# Altium schematic symbol library WA-SMST.SchLib: 108 symbols (part 1 of 2)
Pins are listed as number, name and electrical type; pins without a type are passive.

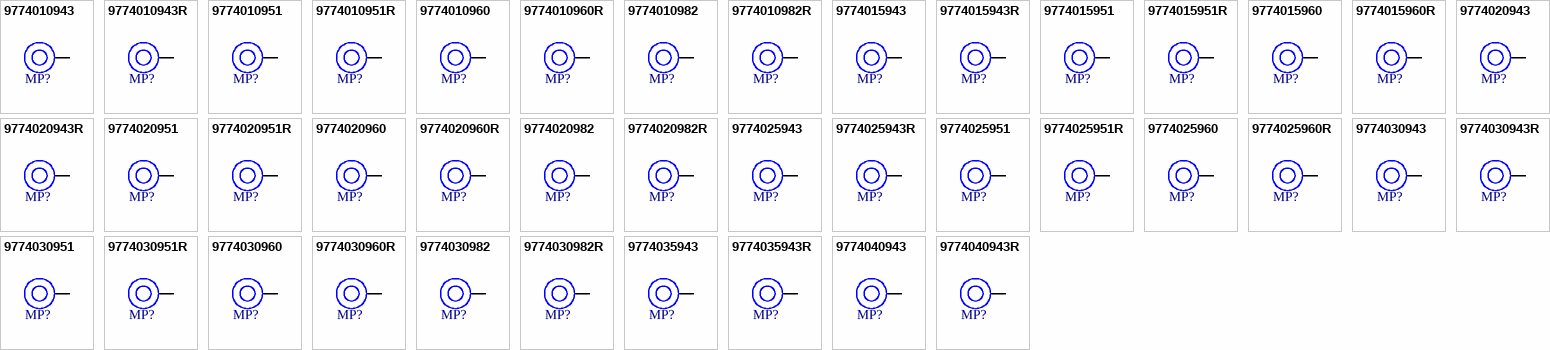
[diagram p0: symbols 9774010943 to 9774040943R]

## 9774010943
designator MP?, comment hole 2.25mm x 1mm  (value not drawn)
WA-SMST SMT Steel Spacer, OD 4.35mm, hole 2.25mm x 1mm; Manufacturer Part Number: 9774010943; Manufacturer: Wurth Elektronik; Surface: Tin; ComponentLink1Description: Website Link; ComponentLink1URL: https://www.we-online.com/redexpert/article/9774010943?ad; ComponentLink2Description: Datasheet Link; ComponentLink2URL: https://www.we-online.com/redexpert/spec/9774010943?ad; Category: SMT Spacers; Match Code: WA-SMST; Mount: Surface Mount; Operating Temperature Max: 150°C; Operating Temperature Min: -55°C; Packaging: Bulk; Height: 1mm; Inside Diameter: 2.25mm; Material: Steel; Outside Diameter: 4.35mm
footprint 9774010943
pins: 1

## 9774010943R
designator MP?, comment hole 2.25mm x 1mm  (value not drawn)
WA-SMST SMT Steel Spacer, OD 4.35mm, hole 2.25mm x 1mm; Manufacturer Part Number: 9774010943R; Manufacturer: Wurth Elektronik; Surface: Tin; ComponentLink1Description: Website Link; ComponentLink1URL: https://www.we-online.com/redexpert/article/9774010943R?ad; ComponentLink2Description: Datasheet Link; ComponentLink2URL: https://www.we-online.com/redexpert/spec/9774010943R?ad; Category: SMT Spacers; Match Code: WA-SMST; Mount: Surface Mount; Operating Temperature Max: 150°C; Operating Temperature Min: -55°C; Packaging: Tape and Reel; Height: 1mm; Inside Diameter: 2.25mm; Material: Steel; Outside Diameter: 4.35mm
footprint 9774010943
pins: 1

## 9774010951
designator MP?, comment hole 2.7mm x 1mm  (value not drawn)
WA-SMST SMT Steel Spacer, OD 5.1mm, hole 2.7mm x 1mm; Manufacturer Part Number: 9774010951; Manufacturer: Wurth Elektronik; Surface: Tin; ComponentLink1Description: Website Link; ComponentLink1URL: https://www.we-online.com/redexpert/article/9774010951?ad; ComponentLink2Description: Datasheet Link; ComponentLink2URL: https://www.we-online.com/redexpert/spec/9774010951?ad; Category: SMT Spacers; Match Code: WA-SMST; Mount: Surface Mount; Operating Temperature Max: 150°C; Operating Temperature Min: -55°C; Packaging: Bulk; Height: 1mm; Inside Diameter: 2.7mm; Material: Steel; Outside Diameter: 5.1mm
footprint 9774010951
pins: 1

## 9774010951R
designator MP?, comment hole 2.7mm x 1mm  (value not drawn)
WA-SMST SMT Steel Spacer, OD 5.1mm, hole 2.7mm x 1mm; Manufacturer Part Number: 9774010951R; Manufacturer: Wurth Elektronik; Surface: Tin; ComponentLink1Description: Website Link; ComponentLink1URL: https://www.we-online.com/redexpert/article/9774010951R?ad; ComponentLink2Description: Datasheet Link; ComponentLink2URL: https://www.we-online.com/redexpert/spec/9774010951R?ad; Category: SMT Spacers; Match Code: WA-SMST; Mount: Surface Mount; Operating Temperature Max: 150°C; Operating Temperature Min: -55°C; Packaging: Tape and Reel; Height: 1mm; Inside Diameter: 2.7mm; Material: Steel; Outside Diameter: 5.1mm
footprint 9774010951
pins: 1

## 9774010960
designator MP?, comment hole 3.3mm x 1mm  (value not drawn)
WA-SMST SMT Steel Spacer, OD 6mm, hole 3.3mm x 1mm; Manufacturer Part Number: 9774010960; Manufacturer: Wurth Elektronik; Surface: Tin; ComponentLink1Description: Website Link; ComponentLink1URL: https://www.we-online.com/redexpert/article/9774010960?ad; ComponentLink2Description: Datasheet Link; ComponentLink2URL: https://www.we-online.com/redexpert/spec/9774010960?ad; Category: SMT Spacers; Match Code: WA-SMST; Mount: Surface Mount; Operating Temperature Max: 150°C; Operating Temperature Min: -55°C; Packaging: Bulk; Height: 1mm; Inside Diameter: 3.3mm; Material: Steel; Outside Diameter: 6mm
footprint 9774010960
pins: 1

## 9774010960R
designator MP?, comment hole 3.3mm x 1mm  (value not drawn)
WA-SMST SMT Steel Spacer, OD 6mm, hole 3.3mm x 1mm; Manufacturer Part Number: 9774010960R; Manufacturer: Wurth Elektronik; Surface: Tin; ComponentLink1Description: Website Link; ComponentLink1URL: https://www.we-online.com/redexpert/article/9774010960R?ad; ComponentLink2Description: Datasheet Link; ComponentLink2URL: https://www.we-online.com/redexpert/spec/9774010960R?ad; Category: SMT Spacers; Match Code: WA-SMST; Mount: Surface Mount; Operating Temperature Max: 150°C; Operating Temperature Min: -55°C; Packaging: Tape and Reel; Height: 1mm; Inside Diameter: 3.3mm; Material: Steel; Outside Diameter: 6mm
footprint 9774010960
pins: 1

## 9774010982
designator MP?, comment hole 4.5mm x 1mm  (value not drawn)
WA-SMST SMT Steel Spacer, OD 8.2mm, hole 4.5mm x 1mm; Manufacturer Part Number: 9774010982; Manufacturer: Wurth Elektronik; Surface: Tin; ComponentLink1Description: Website Link; ComponentLink1URL: https://www.we-online.com/redexpert/article/9774010982?ad; ComponentLink2Description: Datasheet Link; ComponentLink2URL: https://www.we-online.com/redexpert/spec/9774010982?ad; Category: SMT Spacers; Match Code: WA-SMST; Mount: Surface Mount; Operating Temperature Max: 150°C; Operating Temperature Min: -55°C; Packaging: Bulk; Height: 1mm; Inside Diameter: 4.5mm; Material: Steel; Outside Diameter: 8.2mm
footprint 9774010982
pins: 1

## 9774010982R
designator MP?, comment hole 4.5mm x 1mm  (value not drawn)
WA-SMST SMT Steel Spacer, OD 8.2mm, hole 4.5mm x 1mm; Manufacturer Part Number: 9774010982R; Manufacturer: Wurth Elektronik; Surface: Tin; ComponentLink1Description: Website Link; ComponentLink1URL: https://www.we-online.com/redexpert/article/9774010982R?ad; ComponentLink2Description: Datasheet Link; ComponentLink2URL: https://www.we-online.com/redexpert/spec/9774010982R?ad; Category: SMT Spacers; Match Code: WA-SMST; Mount: Surface Mount; Operating Temperature Max: 150°C; Operating Temperature Min: -55°C; Packaging: Tape and Reel; Height: 1mm; Inside Diameter: 4.5mm; Material: Steel; Outside Diameter: 8.2mm
footprint 9774010982
pins: 1

## 9774015943
designator MP?, comment hole 2.25mm x 1.5mm  (value not drawn)
WA-SMST SMT Steel Spacer, OD 4.35mm, hole 2.25mm x 1.5mm; Manufacturer Part Number: 9774015943; Manufacturer: Wurth Elektronik; Surface: Tin; ComponentLink1Description: Website Link; ComponentLink1URL: https://www.we-online.com/redexpert/article/9774015943?ad; ComponentLink2Description: Datasheet Link; ComponentLink2URL: https://www.we-online.com/redexpert/spec/9774015943?ad; Category: SMT Spacers; Match Code: WA-SMST; Mount: Surface Mount; Operating Temperature Max: 150°C; Operating Temperature Min: -55°C; Packaging: Bulk; Height: 1.5mm; Inside Diameter: 2.25mm; Material: Steel; Outside Diameter: 4.35mm
footprint 9774015943
pins: 1

## 9774015943R
designator MP?, comment hole 2.25mm x 1.5mm  (value not drawn)
WA-SMST SMT Steel Spacer, OD 4.35mm, hole 2.25mm x 1.5mm; Manufacturer Part Number: 9774015943R; Manufacturer: Wurth Elektronik; Surface: Tin; ComponentLink1Description: Website Link; ComponentLink1URL: https://www.we-online.com/redexpert/article/9774015943R?ad; ComponentLink2Description: Datasheet Link; ComponentLink2URL: https://www.we-online.com/redexpert/spec/9774015943R?ad; Category: SMT Spacers; Match Code: WA-SMST; Mount: Surface Mount; Operating Temperature Max: 150°C; Operating Temperature Min: -55°C; Packaging: Tape and Reel; Height: 1.5mm; Inside Diameter: 2.25mm; Material: Steel; Outside Diameter: 4.35mm
footprint 9774015943
pins: 1

## 9774015951
designator MP?, comment hole 2.7mm x 1.5mm  (value not drawn)
WA-SMST SMT Steel Spacer, OD 5.1mm, hole 2.7mm x 1.5mm; Manufacturer Part Number: 9774015951; Manufacturer: Wurth Elektronik; Surface: Tin; ComponentLink1Description: Website Link; ComponentLink1URL: https://www.we-online.com/redexpert/article/9774015951?ad; ComponentLink2Description: Datasheet Link; ComponentLink2URL: https://www.we-online.com/redexpert/spec/9774015951?ad; Category: SMT Spacers; Match Code: WA-SMST; Mount: Surface Mount; Operating Temperature Max: 150°C; Operating Temperature Min: -55°C; Packaging: Bulk; Height: 1.5mm; Inside Diameter: 2.7mm; Material: Steel; Outside Diameter: 5.1mm
footprint 9774015951
pins: 1

## 9774015951R
designator MP?, comment hole 2.7mm x 1.5mm  (value not drawn)
WA-SMST SMT Steel Spacer, OD 5.1mm, hole 2.7mm x 1.5mm; Manufacturer Part Number: 9774015951R; Manufacturer: Wurth Elektronik; Surface: Tin; ComponentLink1Description: Website Link; ComponentLink1URL: https://www.we-online.com/redexpert/article/9774015951R?ad; ComponentLink2Description: Datasheet Link; ComponentLink2URL: https://www.we-online.com/redexpert/spec/9774015951R?ad; Category: SMT Spacers; Match Code: WA-SMST; Mount: Surface Mount; Operating Temperature Max: 150°C; Operating Temperature Min: -55°C; Packaging: Tape and Reel; Height: 1.5mm; Inside Diameter: 2.7mm; Material: Steel; Outside Diameter: 5.1mm
footprint 9774015951
pins: 1

## 9774015960
designator MP?, comment hole 3.3mm x 1.5mm  (value not drawn)
WA-SMST SMT Steel Spacer, OD 6mm, hole 3.3mm x 1.5mm; Manufacturer Part Number: 9774015960; Manufacturer: Wurth Elektronik; Surface: Tin; ComponentLink1Description: Website Link; ComponentLink1URL: https://www.we-online.com/redexpert/article/9774015960?ad; ComponentLink2Description: Datasheet Link; ComponentLink2URL: https://www.we-online.com/redexpert/spec/9774015960?ad; Category: SMT Spacers; Match Code: WA-SMST; Mount: Surface Mount; Operating Temperature Max: 150°C; Operating Temperature Min: -55°C; Packaging: Bulk; Height: 1.5mm; Inside Diameter: 3.3mm; Material: Steel; Outside Diameter: 6mm
footprint 9774015960
pins: 1

## 9774015960R
designator MP?, comment hole 3.3mm x 1.5mm  (value not drawn)
WA-SMST SMT Steel Spacer, OD 6mm, hole 3.3mm x 1.5mm; Manufacturer Part Number: 9774015960R; Manufacturer: Wurth Elektronik; Surface: Tin; ComponentLink1Description: Website Link; ComponentLink1URL: https://www.we-online.com/redexpert/article/9774015960R?ad; ComponentLink2Description: Datasheet Link; ComponentLink2URL: https://www.we-online.com/redexpert/spec/9774015960R?ad; Category: SMT Spacers; Match Code: WA-SMST; Mount: Surface Mount; Operating Temperature Max: 150°C; Operating Temperature Min: -55°C; Packaging: Tape and Reel; Height: 1.5mm; Inside Diameter: 3.3mm; Material: Steel; Outside Diameter: 6mm
footprint 9774015960
pins: 1

## 9774020943
designator MP?, comment hole 2.25mm x 2mm  (value not drawn)
WA-SMST SMT Steel Spacer, OD 4.35mm, hole 2.25mm x 2mm; Manufacturer Part Number: 9774020943; Manufacturer: Wurth Elektronik; Surface: Tin; ComponentLink1Description: Website Link; ComponentLink1URL: https://www.we-online.com/redexpert/article/9774020943?ad; ComponentLink2Description: Datasheet Link; ComponentLink2URL: https://www.we-online.com/redexpert/spec/9774020943?ad; Category: SMT Spacers; Match Code: WA-SMST; Mount: Surface Mount; Operating Temperature Max: 150°C; Operating Temperature Min: -55°C; Packaging: Bulk; Height: 2mm; Inside Diameter: 2.25mm; Material: Steel; Outside Diameter: 4.35mm
footprint 9774020943
pins: 1

## 9774020943R
designator MP?, comment hole 2.25mm x 2mm  (value not drawn)
WA-SMST SMT Steel Spacer, OD 4.35mm, hole 2.25mm x 2mm; Manufacturer Part Number: 9774020943R; Manufacturer: Wurth Elektronik; Surface: Tin; ComponentLink1Description: Website Link; ComponentLink1URL: https://www.we-online.com/redexpert/article/9774020943R?ad; ComponentLink2Description: Datasheet Link; ComponentLink2URL: https://www.we-online.com/redexpert/spec/9774020943R?ad; Category: SMT Spacers; Match Code: WA-SMST; Mount: Surface Mount; Operating Temperature Max: 150°C; Operating Temperature Min: -55°C; Packaging: Tape and Reel; Height: 2mm; Inside Diameter: 2.25mm; Material: Steel; Outside Diameter: 4.35mm
footprint 9774020943
pins: 1

## 9774020951
designator MP?, comment hole 2.7mm x 2mm  (value not drawn)
WA-SMST SMT Steel Spacer, OD 5.1mm, hole 2.7mm x 2mm; Manufacturer Part Number: 9774020951; Manufacturer: Wurth Elektronik; Surface: Tin; ComponentLink1Description: Website Link; ComponentLink1URL: https://www.we-online.com/redexpert/article/9774020951?ad; ComponentLink2Description: Datasheet Link; ComponentLink2URL: https://www.we-online.com/redexpert/spec/9774020951?ad; Category: SMT Spacers; Match Code: WA-SMST; Mount: Surface Mount; Operating Temperature Max: 150°C; Operating Temperature Min: -55°C; Packaging: Bulk; Height: 2mm; Inside Diameter: 2.7mm; Material: Steel; Outside Diameter: 5.1mm
footprint 9774020951
pins: 1

## 9774020951R
designator MP?, comment hole 2.7mm x 2mm  (value not drawn)
WA-SMST SMT Steel Spacer, OD 5.1mm, hole 2.7mm x 2mm; Manufacturer Part Number: 9774020951R; Manufacturer: Wurth Elektronik; Surface: Tin; ComponentLink1Description: Website Link; ComponentLink1URL: https://www.we-online.com/redexpert/article/9774020951R?ad; ComponentLink2Description: Datasheet Link; ComponentLink2URL: https://www.we-online.com/redexpert/spec/9774020951R?ad; Category: SMT Spacers; Match Code: WA-SMST; Mount: Surface Mount; Operating Temperature Max: 150°C; Operating Temperature Min: -55°C; Packaging: Tape and Reel; Height: 2mm; Inside Diameter: 2.7mm; Material: Steel; Outside Diameter: 5.1mm
footprint 9774020951
pins: 1

## 9774020960
designator MP?, comment hole 3.3mm x 2mm  (value not drawn)
WA-SMST SMT Steel Spacer, OD 6mm, hole 3.3mm x 2mm; Manufacturer Part Number: 9774020960; Manufacturer: Wurth Elektronik; Surface: Tin; ComponentLink1Description: Website Link; ComponentLink1URL: https://www.we-online.com/redexpert/article/9774020960?ad; ComponentLink2Description: Datasheet Link; ComponentLink2URL: https://www.we-online.com/redexpert/spec/9774020960?ad; Category: SMT Spacers; Match Code: WA-SMST; Mount: Surface Mount; Operating Temperature Max: 150°C; Operating Temperature Min: -55°C; Packaging: Bulk; Height: 2mm; Inside Diameter: 3.3mm; Material: Steel; Outside Diameter: 6mm
footprint 9774020960
pins: 1

## 9774020960R
designator MP?, comment hole 3.3mm x 2mm  (value not drawn)
WA-SMST SMT Steel Spacer, OD 6mm, hole 3.3mm x 2mm; Manufacturer Part Number: 9774020960R; Manufacturer: Wurth Elektronik; Surface: Tin; ComponentLink1Description: Website Link; ComponentLink1URL: https://www.we-online.com/redexpert/article/9774020960R?ad; ComponentLink2Description: Datasheet Link; ComponentLink2URL: https://www.we-online.com/redexpert/spec/9774020960R?ad; Category: SMT Spacers; Match Code: WA-SMST; Mount: Surface Mount; Operating Temperature Max: 150°C; Operating Temperature Min: -55°C; Packaging: Tape and Reel; Height: 2mm; Inside Diameter: 3.3mm; Material: Steel; Outside Diameter: 6mm
footprint 9774020960
pins: 1

## 9774020982
designator MP?, comment hole 4.5mm x 2mm  (value not drawn)
WA-SMST SMT Steel Spacer, OD 8.2mm, hole 4.5mm x 2mm; Manufacturer Part Number: 9774020982; Manufacturer: Wurth Elektronik; Surface: Tin; ComponentLink1Description: Website Link; ComponentLink1URL: https://www.we-online.com/redexpert/article/9774020982?ad; ComponentLink2Description: Datasheet Link; ComponentLink2URL: https://www.we-online.com/redexpert/spec/9774020982?ad; Category: SMT Spacers; Match Code: WA-SMST; Mount: Surface Mount; Operating Temperature Max: 150°C; Operating Temperature Min: -55°C; Packaging: Bulk; Height: 2mm; Inside Diameter: 4.5mm; Material: Steel; Outside Diameter: 8.2mm
footprint 9774020982
pins: 1

## 9774020982R
designator MP?, comment hole 4.5mm x 2mm  (value not drawn)
WA-SMST SMT Steel Spacer, OD 8.2mm, hole 4.5mm x 2mm; Manufacturer Part Number: 9774020982R; Manufacturer: Wurth Elektronik; Surface: Tin; ComponentLink1Description: Website Link; ComponentLink1URL: https://www.we-online.com/redexpert/article/9774020982R?ad; ComponentLink2Description: Datasheet Link; ComponentLink2URL: https://www.we-online.com/redexpert/spec/9774020982R?ad; Category: SMT Spacers; Match Code: WA-SMST; Mount: Surface Mount; Operating Temperature Max: 150°C; Operating Temperature Min: -55°C; Packaging: Tape and Reel; Height: 2mm; Inside Diameter: 4.5mm; Material: Steel; Outside Diameter: 8.2mm
footprint 9774020982
pins: 1

## 9774025943
designator MP?, comment hole 2.25mm x 2.5mm  (value not drawn)
WA-SMST SMT Steel Spacer, OD 4.35mm, hole 2.25mm x 2.5mm; Manufacturer Part Number: 9774025943; Manufacturer: Wurth Elektronik; Surface: Tin; ComponentLink1Description: Website Link; ComponentLink1URL: https://www.we-online.com/redexpert/article/9774025943?ad; ComponentLink2Description: Datasheet Link; ComponentLink2URL: https://www.we-online.com/redexpert/spec/9774025943?ad; Category: SMT Spacers; Match Code: WA-SMST; Mount: Surface Mount; Operating Temperature Max: 150°C; Operating Temperature Min: -55°C; Packaging: Bulk; Height: 2.5mm; Inside Diameter: 2.25mm; Material: Steel; Outside Diameter: 4.35mm
footprint 9774025943
pins: 1

## 9774025943R
designator MP?, comment hole 2.25mm x 2.5mm  (value not drawn)
WA-SMST SMT Steel Spacer, OD 4.35mm, hole 2.25mm x 2.5mm; Manufacturer Part Number: 9774025943R; Manufacturer: Wurth Elektronik; Surface: Tin; ComponentLink1Description: Website Link; ComponentLink1URL: https://www.we-online.com/redexpert/article/9774025943R?ad; ComponentLink2Description: Datasheet Link; ComponentLink2URL: https://www.we-online.com/redexpert/spec/9774025943R?ad; Category: SMT Spacers; Match Code: WA-SMST; Mount: Surface Mount; Operating Temperature Max: 150°C; Operating Temperature Min: -55°C; Packaging: Tape and Reel; Height: 2.5mm; Inside Diameter: 2.25mm; Material: Steel; Outside Diameter: 4.35mm
footprint 9774025943
pins: 1

## 9774025951
designator MP?, comment hole 2.7mm x 2.5mm  (value not drawn)
WA-SMST SMT Steel Spacer, OD 5.1mm, hole 2.7mm x 2.5mm; Manufacturer Part Number: 9774025951; Manufacturer: Wurth Elektronik; Surface: Tin; ComponentLink1Description: Website Link; ComponentLink1URL: https://www.we-online.com/redexpert/article/9774025951?ad; ComponentLink2Description: Datasheet Link; ComponentLink2URL: https://www.we-online.com/redexpert/spec/9774025951?ad; Category: SMT Spacers; Match Code: WA-SMST; Mount: Surface Mount; Operating Temperature Max: 150°C; Operating Temperature Min: -55°C; Packaging: Bulk; Height: 2.5mm; Inside Diameter: 2.7mm; Material: Steel; Outside Diameter: 5.1mm
footprint 9774025951
pins: 1

## 9774025951R
designator MP?, comment hole 2.7mm x 2.5mm  (value not drawn)
WA-SMST SMT Steel Spacer, OD 5.1mm, hole 2.7mm x 2.5mm; Manufacturer Part Number: 9774025951R; Manufacturer: Wurth Elektronik; Surface: Tin; ComponentLink1Description: Website Link; ComponentLink1URL: https://www.we-online.com/redexpert/article/9774025951R?ad; ComponentLink2Description: Datasheet Link; ComponentLink2URL: https://www.we-online.com/redexpert/spec/9774025951R?ad; Category: SMT Spacers; Match Code: WA-SMST; Mount: Surface Mount; Operating Temperature Max: 150°C; Operating Temperature Min: -55°C; Packaging: Tape and Reel; Height: 2.5mm; Inside Diameter: 2.7mm; Material: Steel; Outside Diameter: 5.1mm
footprint 9774025951
pins: 1

## 9774025960
designator MP?, comment hole 3.3mm x 2.5mm  (value not drawn)
WA-SMST SMT Steel Spacer, OD 6mm, hole 3.3mm x 2.5mm; Manufacturer Part Number: 9774025960; Manufacturer: Wurth Elektronik; Surface: Tin; ComponentLink1Description: Website Link; ComponentLink1URL: https://www.we-online.com/redexpert/article/9774025960?ad; ComponentLink2Description: Datasheet Link; ComponentLink2URL: https://www.we-online.com/redexpert/spec/9774025960?ad; Category: SMT Spacers; Match Code: WA-SMST; Mount: Surface Mount; Operating Temperature Max: 150°C; Operating Temperature Min: -55°C; Packaging: Bulk; Height: 2.5mm; Inside Diameter: 3.3mm; Material: Steel; Outside Diameter: 6mm
footprint 9774025960
pins: 1

## 9774025960R
designator MP?, comment hole 3.3mm x 2.5mm  (value not drawn)
WA-SMST SMT Steel Spacer, OD 6mm, hole 3.3mm x 2.5mm; Manufacturer Part Number: 9774025960R; Manufacturer: Wurth Elektronik; Surface: Tin; ComponentLink1Description: Website Link; ComponentLink1URL: https://www.we-online.com/redexpert/article/9774025960R?ad; ComponentLink2Description: Datasheet Link; ComponentLink2URL: https://www.we-online.com/redexpert/spec/9774025960R?ad; Category: SMT Spacers; Match Code: WA-SMST; Mount: Surface Mount; Operating Temperature Max: 150°C; Operating Temperature Min: -55°C; Packaging: Tape and Reel; Height: 2.5mm; Inside Diameter: 3.3mm; Material: Steel; Outside Diameter: 6mm
footprint 9774025960
pins: 1

## 9774030943
designator MP?, comment hole 2.25mm x 3mm  (value not drawn)
WA-SMST SMT Steel Spacer, OD 4.35mm, hole 2.25mm x 3mm; Manufacturer Part Number: 9774030943; Manufacturer: Wurth Elektronik; Surface: Tin; ComponentLink1Description: Website Link; ComponentLink1URL: https://www.we-online.com/redexpert/article/9774030943?ad; ComponentLink2Description: Datasheet Link; ComponentLink2URL: https://www.we-online.com/redexpert/spec/9774030943?ad; Category: SMT Spacers; Match Code: WA-SMST; Mount: Surface Mount; Operating Temperature Max: 150°C; Operating Temperature Min: -55°C; Packaging: Bulk; Height: 3mm; Inside Diameter: 2.25mm; Material: Steel; Outside Diameter: 4.35mm
footprint 9774030943
pins: 1

## 9774030943R
designator MP?, comment hole 2.25mm x 3mm  (value not drawn)
WA-SMST SMT Steel Spacer, OD 4.35mm, hole 2.25mm x 3mm; Manufacturer Part Number: 9774030943R; Manufacturer: Wurth Elektronik; Surface: Tin; ComponentLink1Description: Website Link; ComponentLink1URL: https://www.we-online.com/redexpert/article/9774030943R?ad; ComponentLink2Description: Datasheet Link; ComponentLink2URL: https://www.we-online.com/redexpert/spec/9774030943R?ad; Category: SMT Spacers; Match Code: WA-SMST; Mount: Surface Mount; Operating Temperature Max: 150°C; Operating Temperature Min: -55°C; Packaging: Tape and Reel; Height: 3mm; Inside Diameter: 2.25mm; Material: Steel; Outside Diameter: 4.35mm
footprint 9774030943
pins: 1

## 9774030951
designator MP?, comment hole 2.7mm x 3mm  (value not drawn)
WA-SMST SMT Steel Spacer, OD 5.1mm, hole 2.7mm x 3mm; Manufacturer Part Number: 9774030951; Manufacturer: Wurth Elektronik; Surface: Tin; ComponentLink1Description: Website Link; ComponentLink1URL: https://www.we-online.com/redexpert/article/9774030951?ad; ComponentLink2Description: Datasheet Link; ComponentLink2URL: https://www.we-online.com/redexpert/spec/9774030951?ad; Category: SMT Spacers; Match Code: WA-SMST; Mount: Surface Mount; Operating Temperature Max: 150°C; Operating Temperature Min: -55°C; Packaging: Bulk; Height: 3mm; Inside Diameter: 2.7mm; Material: Steel; Outside Diameter: 5.1mm
footprint 9774030951
pins: 1

## 9774030951R
designator MP?, comment hole 2.7mm x 3mm  (value not drawn)
WA-SMST SMT Steel Spacer, OD 5.1mm, hole 2.7mm x 3mm; Manufacturer Part Number: 9774030951R; Manufacturer: Wurth Elektronik; Surface: Tin; ComponentLink1Description: Website Link; ComponentLink1URL: https://www.we-online.com/redexpert/article/9774030951R?ad; ComponentLink2Description: Datasheet Link; ComponentLink2URL: https://www.we-online.com/redexpert/spec/9774030951R?ad; Category: SMT Spacers; Match Code: WA-SMST; Mount: Surface Mount; Operating Temperature Max: 150°C; Operating Temperature Min: -55°C; Packaging: Tape and Reel; Height: 3mm; Inside Diameter: 2.7mm; Material: Steel; Outside Diameter: 5.1mm
footprint 9774030951
pins: 1

## 9774030960
designator MP?, comment hole 3.3mm x 3mm  (value not drawn)
WA-SMST SMT Steel Spacer, OD 6mm, hole 3.3mm x 3mm; Manufacturer Part Number: 9774030960; Manufacturer: Wurth Elektronik; Surface: Tin; ComponentLink1Description: Website Link; ComponentLink1URL: https://www.we-online.com/redexpert/article/9774030960?ad; ComponentLink2Description: Datasheet Link; ComponentLink2URL: https://www.we-online.com/redexpert/spec/9774030960?ad; Category: SMT Spacers; Match Code: WA-SMST; Mount: Surface Mount; Operating Temperature Max: 150°C; Operating Temperature Min: -55°C; Packaging: Bulk; Height: 3mm; Inside Diameter: 3.3mm; Material: Steel; Outside Diameter: 6mm
footprint 9774030960
pins: 1

## 9774030960R
designator MP?, comment hole 3.3mm x 3mm  (value not drawn)
WA-SMST SMT Steel Spacer, OD 6mm, hole 3.3mm x 3mm; Manufacturer Part Number: 9774030960R; Manufacturer: Wurth Elektronik; Surface: Tin; ComponentLink1Description: Website Link; ComponentLink1URL: https://www.we-online.com/redexpert/article/9774030960R?ad; ComponentLink2Description: Datasheet Link; ComponentLink2URL: https://www.we-online.com/redexpert/spec/9774030960R?ad; Category: SMT Spacers; Match Code: WA-SMST; Mount: Surface Mount; Operating Temperature Max: 150°C; Operating Temperature Min: -55°C; Packaging: Tape and Reel; Height: 3mm; Inside Diameter: 3.3mm; Material: Steel; Outside Diameter: 6mm
footprint 9774030960
pins: 1

## 9774030982
designator MP?, comment hole 4.5mm x 3mm  (value not drawn)
WA-SMST SMT Steel Spacer, OD 8.2mm, hole 4.5mm x 3mm; Manufacturer Part Number: 9774030982; Manufacturer: Wurth Elektronik; Surface: Tin; ComponentLink1Description: Website Link; ComponentLink1URL: https://www.we-online.com/redexpert/article/9774030982?ad; ComponentLink2Description: Datasheet Link; ComponentLink2URL: https://www.we-online.com/redexpert/spec/9774030982?ad; Category: SMT Spacers; Match Code: WA-SMST; Mount: Surface Mount; Operating Temperature Max: 150°C; Operating Temperature Min: -55°C; Packaging: Bulk; Height: 3mm; Inside Diameter: 4.5mm; Material: Steel; Outside Diameter: 8.2mm
footprint 9774030982
pins: 1

## 9774030982R
designator MP?, comment hole 4.5mm x 3mm  (value not drawn)
WA-SMST SMT Steel Spacer, OD 8.2mm, hole 4.5mm x 3mm; Manufacturer Part Number: 9774030982R; Manufacturer: Wurth Elektronik; Surface: Tin; ComponentLink1Description: Website Link; ComponentLink1URL: https://www.we-online.com/redexpert/article/9774030982R?ad; ComponentLink2Description: Datasheet Link; ComponentLink2URL: https://www.we-online.com/redexpert/spec/9774030982R?ad; Category: SMT Spacers; Match Code: WA-SMST; Mount: Surface Mount; Operating Temperature Max: 150°C; Operating Temperature Min: -55°C; Packaging: Tape and Reel; Height: 3mm; Inside Diameter: 4.5mm; Material: Steel; Outside Diameter: 8.2mm
footprint 9774030982
pins: 1

## 9774035943
designator MP?, comment hole 2.25mm x 3.5mm  (value not drawn)
WA-SMST SMT Steel Spacer, OD 4.35mm, hole 2.25mm x 3.5mm; Manufacturer Part Number: 9774035943; Manufacturer: Wurth Elektronik; Surface: Tin; ComponentLink1Description: Website Link; ComponentLink1URL: https://www.we-online.com/redexpert/article/9774035943?ad; ComponentLink2Description: Datasheet Link; ComponentLink2URL: https://www.we-online.com/redexpert/spec/9774035943?ad; Category: SMT Spacers; Match Code: WA-SMST; Mount: Surface Mount; Operating Temperature Max: 150°C; Operating Temperature Min: -55°C; Packaging: Bulk; Height: 3.5mm; Inside Diameter: 2.25mm; Material: Steel; Outside Diameter: 4.35mm
footprint 9774035943
pins: 1

## 9774035943R
designator MP?, comment hole 2.25mm x 3.5mm  (value not drawn)
WA-SMST SMT Steel Spacer, OD 4.35mm, hole 2.25mm x 3.5mm; Manufacturer Part Number: 9774035943R; Manufacturer: Wurth Elektronik; Surface: Tin; ComponentLink1Description: Website Link; ComponentLink1URL: https://www.we-online.com/redexpert/article/9774035943R?ad; ComponentLink2Description: Datasheet Link; ComponentLink2URL: https://www.we-online.com/redexpert/spec/9774035943R?ad; Category: SMT Spacers; Match Code: WA-SMST; Mount: Surface Mount; Operating Temperature Max: 150°C; Operating Temperature Min: -55°C; Packaging: Tape and Reel; Height: 3.5mm; Inside Diameter: 2.25mm; Material: Steel; Outside Diameter: 4.35mm
footprint 9774035943
pins: 1

## 9774040943
designator MP?, comment hole 2.25mm x 4mm  (value not drawn)
WA-SMST SMT Steel Spacer, OD 4.35mm, hole 2.25mm x 4mm; Manufacturer Part Number: 9774040943; Manufacturer: Wurth Elektronik; Surface: Tin; ComponentLink1Description: Website Link; ComponentLink1URL: https://www.we-online.com/redexpert/article/9774040943?ad; ComponentLink2Description: Datasheet Link; ComponentLink2URL: https://www.we-online.com/redexpert/spec/9774040943?ad; Category: SMT Spacers; Match Code: WA-SMST; Mount: Surface Mount; Operating Temperature Max: 150°C; Operating Temperature Min: -55°C; Packaging: Bulk; Height: 4mm; Inside Diameter: 2.25mm; Material: Steel; Outside Diameter: 4.35mm
footprint 9774040943
pins: 1

## 9774040943R
designator MP?, comment hole 2.25mm x 4mm  (value not drawn)
WA-SMST SMT Steel Spacer, OD 4.35mm, hole 2.25mm x 4mm; Manufacturer Part Number: 9774040943R; Manufacturer: Wurth Elektronik; Surface: Tin; ComponentLink1Description: Website Link; ComponentLink1URL: https://www.we-online.com/redexpert/article/9774040943R?ad; ComponentLink2Description: Datasheet Link; ComponentLink2URL: https://www.we-online.com/redexpert/spec/9774040943R?ad; Category: SMT Spacers; Match Code: WA-SMST; Mount: Surface Mount; Operating Temperature Max: 150°C; Operating Temperature Min: -55°C; Packaging: Tape and Reel; Height: 4mm; Inside Diameter: 2.25mm; Material: Steel; Outside Diameter: 4.35mm
footprint 9774040943
pins: 1

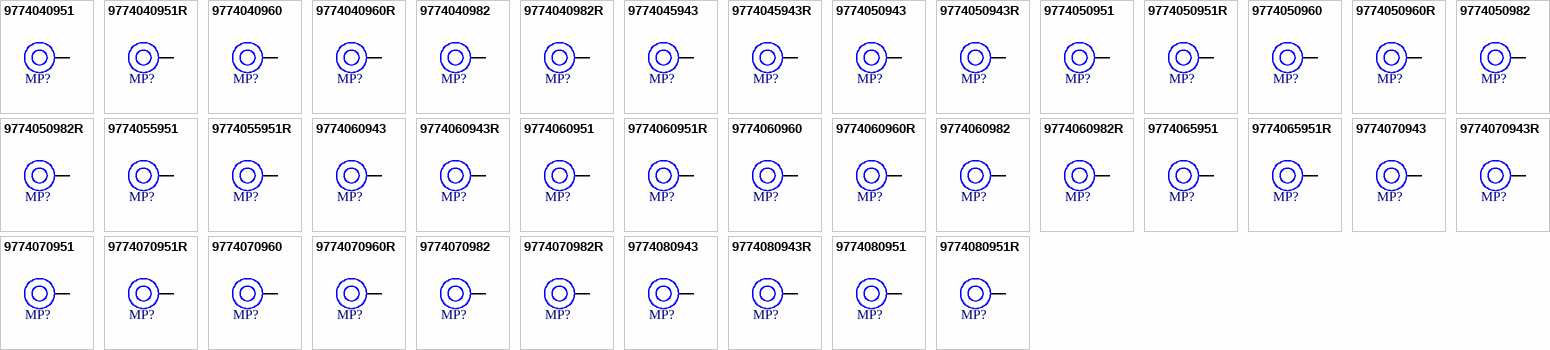
[diagram p1: symbols 9774040951 to 9774080951R]

## 9774040951
designator MP?, comment hole 2.7mm x 4mm  (value not drawn)
WA-SMST SMT Steel Spacer, OD 5.1mm, hole 2.7mm x 4mm; Manufacturer Part Number: 9774040951; Manufacturer: Wurth Elektronik; Surface: Tin; ComponentLink1Description: Website Link; ComponentLink1URL: https://www.we-online.com/redexpert/article/9774040951?ad; ComponentLink2Description: Datasheet Link; ComponentLink2URL: https://www.we-online.com/redexpert/spec/9774040951?ad; Category: SMT Spacers; Match Code: WA-SMST; Mount: Surface Mount; Operating Temperature Max: 150°C; Operating Temperature Min: -55°C; Packaging: Bulk; Height: 4mm; Inside Diameter: 2.7mm; Material: Steel; Outside Diameter: 5.1mm
footprint 9774040951
pins: 1

## 9774040951R
designator MP?, comment hole 2.7mm x 4mm  (value not drawn)
WA-SMST SMT Steel Spacer, OD 5.1mm, hole 2.7mm x 4mm; Manufacturer Part Number: 9774040951R; Manufacturer: Wurth Elektronik; Surface: Tin; ComponentLink1Description: Website Link; ComponentLink1URL: https://www.we-online.com/redexpert/article/9774040951R?ad; ComponentLink2Description: Datasheet Link; ComponentLink2URL: https://www.we-online.com/redexpert/spec/9774040951R?ad; Category: SMT Spacers; Match Code: WA-SMST; Mount: Surface Mount; Operating Temperature Max: 150°C; Operating Temperature Min: -55°C; Packaging: Tape and Reel; Height: 4mm; Inside Diameter: 2.7mm; Material: Steel; Outside Diameter: 5.1mm
footprint 9774040951
pins: 1

## 9774040960
designator MP?, comment hole 3.3mm x 4mm  (value not drawn)
WA-SMST SMT Steel Spacer, OD 6mm, hole 3.3mm x 4mm; Manufacturer Part Number: 9774040960; Manufacturer: Wurth Elektronik; Surface: Tin; ComponentLink1Description: Website Link; ComponentLink1URL: https://www.we-online.com/redexpert/article/9774040960?ad; ComponentLink2Description: Datasheet Link; ComponentLink2URL: https://www.we-online.com/redexpert/spec/9774040960?ad; Category: SMT Spacers; Match Code: WA-SMST; Mount: Surface Mount; Operating Temperature Max: 150°C; Operating Temperature Min: -55°C; Packaging: Bulk; Height: 4mm; Inside Diameter: 3.3mm; Material: Steel; Outside Diameter: 6mm
footprint 9774040960
pins: 1

## 9774040960R
designator MP?, comment hole 3.3mm x 4mm  (value not drawn)
WA-SMST SMT Steel Spacer, OD 6mm, hole 3.3mm x 4mm; Manufacturer Part Number: 9774040960R; Manufacturer: Wurth Elektronik; Surface: Tin; ComponentLink1Description: Website Link; ComponentLink1URL: https://www.we-online.com/redexpert/article/9774040960R?ad; ComponentLink2Description: Datasheet Link; ComponentLink2URL: https://www.we-online.com/redexpert/spec/9774040960R?ad; Category: SMT Spacers; Match Code: WA-SMST; Mount: Surface Mount; Operating Temperature Max: 150°C; Operating Temperature Min: -55°C; Packaging: Tape and Reel; Height: 4mm; Inside Diameter: 3.3mm; Material: Steel; Outside Diameter: 6mm
footprint 9774040960
pins: 1

## 9774040982
designator MP?, comment hole 4.5mm x 4mm  (value not drawn)
WA-SMST SMT Steel Spacer, OD 8.2mm, hole 4.5mm x 4mm; Manufacturer Part Number: 9774040982; Manufacturer: Wurth Elektronik; Surface: Tin; ComponentLink1Description: Website Link; ComponentLink1URL: https://www.we-online.com/redexpert/article/9774040982?ad; ComponentLink2Description: Datasheet Link; ComponentLink2URL: https://www.we-online.com/redexpert/spec/9774040982?ad; Category: SMT Spacers; Match Code: WA-SMST; Mount: Surface Mount; Operating Temperature Max: 150°C; Operating Temperature Min: -55°C; Packaging: Bulk; Height: 4mm; Inside Diameter: 4.5mm; Material: Steel; Outside Diameter: 8.2mm
footprint 9774040982
pins: 1

## 9774040982R
designator MP?, comment hole 4.5mm x 4mm  (value not drawn)
WA-SMST SMT Steel Spacer, OD 8.2mm, hole 4.5mm x 4mm; Manufacturer Part Number: 9774040982R; Manufacturer: Wurth Elektronik; Surface: Tin; ComponentLink1Description: Website Link; ComponentLink1URL: https://www.we-online.com/redexpert/article/9774040982R?ad; ComponentLink2Description: Datasheet Link; ComponentLink2URL: https://www.we-online.com/redexpert/spec/9774040982R?ad; Category: SMT Spacers; Match Code: WA-SMST; Mount: Surface Mount; Operating Temperature Max: 150°C; Operating Temperature Min: -55°C; Packaging: Tape and Reel; Height: 4mm; Inside Diameter: 4.5mm; Material: Steel; Outside Diameter: 8.2mm
footprint 9774040982
pins: 1

## 9774045943
designator MP?, comment hole 2.25mm x 4.5mm  (value not drawn)
WA-SMST SMT Steel Spacer, OD 4.35mm, hole 2.25mm x 4.5mm; Manufacturer Part Number: 9774045943; Manufacturer: Wurth Elektronik; Surface: Tin; ComponentLink1Description: Website Link; ComponentLink1URL: https://www.we-online.com/redexpert/article/9774045943?ad; ComponentLink2Description: Datasheet Link; ComponentLink2URL: https://www.we-online.com/redexpert/spec/9774045943?ad; Category: SMT Spacers; Match Code: WA-SMST; Mount: Surface Mount; Operating Temperature Max: 150°C; Operating Temperature Min: -55°C; Packaging: Bulk; Height: 4.5mm; Inside Diameter: 2.25mm; Material: Steel; Outside Diameter: 4.35mm
footprint 9774045943
pins: 1

## 9774045943R
designator MP?, comment hole 2.25mm x 4.5mm  (value not drawn)
WA-SMST SMT Steel Spacer, OD 4.35mm, hole 2.25mm x 4.5mm; Manufacturer Part Number: 9774045943R; Manufacturer: Wurth Elektronik; Surface: Tin; ComponentLink1Description: Website Link; ComponentLink1URL: https://www.we-online.com/redexpert/article/9774045943R?ad; ComponentLink2Description: Datasheet Link; ComponentLink2URL: https://www.we-online.com/redexpert/spec/9774045943R?ad; Category: SMT Spacers; Match Code: WA-SMST; Mount: Surface Mount; Operating Temperature Max: 150°C; Operating Temperature Min: -55°C; Packaging: Tape and Reel; Height: 4.5mm; Inside Diameter: 2.25mm; Material: Steel; Outside Diameter: 4.35mm
footprint 9774045943
pins: 1

## 9774050943
designator MP?, comment hole 2.25mm x 5mm  (value not drawn)
WA-SMST SMT Steel Spacer, OD 4.35mm, hole 2.25mm x 5mm; Manufacturer Part Number: 9774050943; Manufacturer: Wurth Elektronik; Surface: Tin; ComponentLink1Description: Website Link; ComponentLink1URL: https://www.we-online.com/redexpert/article/9774050943?ad; ComponentLink2Description: Datasheet Link; ComponentLink2URL: https://www.we-online.com/redexpert/spec/9774050943?ad; Category: SMT Spacers; Match Code: WA-SMST; Mount: Surface Mount; Operating Temperature Max: 150°C; Operating Temperature Min: -55°C; Packaging: Bulk; Height: 5mm; Inside Diameter: 2.25mm; Material: Steel; Outside Diameter: 4.35mm
footprint 9774050943
pins: 1

## 9774050943R
designator MP?, comment hole 2.25mm x 5mm  (value not drawn)
WA-SMST SMT Steel Spacer, OD 4.35mm, hole 2.25mm x 5mm; Manufacturer Part Number: 9774050943R; Manufacturer: Wurth Elektronik; Surface: Tin; ComponentLink1Description: Website Link; ComponentLink1URL: https://www.we-online.com/redexpert/article/9774050943R?ad; ComponentLink2Description: Datasheet Link; ComponentLink2URL: https://www.we-online.com/redexpert/spec/9774050943R?ad; Category: SMT Spacers; Match Code: WA-SMST; Mount: Surface Mount; Operating Temperature Max: 150°C; Operating Temperature Min: -55°C; Packaging: Tape and Reel; Height: 5mm; Inside Diameter: 2.25mm; Material: Steel; Outside Diameter: 4.35mm
footprint 9774050943
pins: 1

## 9774050951
designator MP?, comment hole 2.7mm x 5mm  (value not drawn)
WA-SMST SMT Steel Spacer, OD 5.1mm, hole 2.7mm x 5mm; Manufacturer Part Number: 9774050951; Manufacturer: Wurth Elektronik; Surface: Tin; ComponentLink1Description: Website Link; ComponentLink1URL: https://www.we-online.com/redexpert/article/9774050951?ad; ComponentLink2Description: Datasheet Link; ComponentLink2URL: https://www.we-online.com/redexpert/spec/9774050951?ad; Category: SMT Spacers; Match Code: WA-SMST; Mount: Surface Mount; Operating Temperature Max: 150°C; Operating Temperature Min: -55°C; Packaging: Bulk; Height: 5mm; Inside Diameter: 2.7mm; Material: Steel; Outside Diameter: 5.1mm
footprint 9774050951
pins: 1

## 9774050951R
designator MP?, comment hole 2.7mm x 5mm  (value not drawn)
WA-SMST SMT Steel Spacer, OD 5.1mm, hole 2.7mm x 5mm; Manufacturer Part Number: 9774050951R; Manufacturer: Wurth Elektronik; Surface: Tin; ComponentLink1Description: Website Link; ComponentLink1URL: https://www.we-online.com/redexpert/article/9774050951R?ad; ComponentLink2Description: Datasheet Link; ComponentLink2URL: https://www.we-online.com/redexpert/spec/9774050951R?ad; Category: SMT Spacers; Match Code: WA-SMST; Mount: Surface Mount; Operating Temperature Max: 150°C; Operating Temperature Min: -55°C; Packaging: Tape and Reel; Height: 5mm; Inside Diameter: 2.7mm; Material: Steel; Outside Diameter: 5.1mm
footprint 9774050951
pins: 1

## 9774050960
designator MP?, comment hole 3.3mm x 5mm  (value not drawn)
WA-SMST SMT Steel Spacer, OD 6mm, hole 3.3mm x 5mm; Manufacturer Part Number: 9774050960; Manufacturer: Wurth Elektronik; Surface: Tin; ComponentLink1Description: Website Link; ComponentLink1URL: https://www.we-online.com/redexpert/article/9774050960?ad; ComponentLink2Description: Datasheet Link; ComponentLink2URL: https://www.we-online.com/redexpert/spec/9774050960?ad; Category: SMT Spacers; Match Code: WA-SMST; Mount: Surface Mount; Operating Temperature Max: 150°C; Operating Temperature Min: -55°C; Packaging: Bulk; Height: 5mm; Inside Diameter: 3.3mm; Material: Steel; Outside Diameter: 6mm
footprint 9774050960
pins: 1

## 9774050960R
designator MP?, comment hole 3.3mm x 5mm  (value not drawn)
WA-SMST SMT Steel Spacer, OD 6mm, hole 3.3mm x 5mm; Manufacturer Part Number: 9774050960R; Manufacturer: Wurth Elektronik; Surface: Tin; ComponentLink1Description: Website Link; ComponentLink1URL: https://www.we-online.com/redexpert/article/9774050960R?ad; ComponentLink2Description: Datasheet Link; ComponentLink2URL: https://www.we-online.com/redexpert/spec/9774050960R?ad; Category: SMT Spacers; Match Code: WA-SMST; Mount: Surface Mount; Operating Temperature Max: 150°C; Operating Temperature Min: -55°C; Packaging: Tape and Reel; Height: 5mm; Inside Diameter: 3.3mm; Material: Steel; Outside Diameter: 6mm
footprint 9774050960
pins: 1

## 9774050982
designator MP?, comment hole 4.5mm x 5mm  (value not drawn)
WA-SMST SMT Steel Spacer, OD 8.2mm, hole 4.5mm x 5mm; Manufacturer Part Number: 9774050982; Manufacturer: Wurth Elektronik; Surface: Tin; ComponentLink1Description: Website Link; ComponentLink1URL: https://www.we-online.com/redexpert/article/9774050982?ad; ComponentLink2Description: Datasheet Link; ComponentLink2URL: https://www.we-online.com/redexpert/spec/9774050982?ad; Category: SMT Spacers; Match Code: WA-SMST; Mount: Surface Mount; Operating Temperature Max: 150°C; Operating Temperature Min: -55°C; Packaging: Bulk; Height: 5mm; Inside Diameter: 4.5mm; Material: Steel; Outside Diameter: 8.2mm
footprint 9774050982
pins: 1

## 9774050982R
designator MP?, comment hole 4.5mm x 5mm  (value not drawn)
WA-SMST SMT Steel Spacer, OD 8.2mm, hole 4.5mm x 5mm; Manufacturer Part Number: 9774050982R; Manufacturer: Wurth Elektronik; Surface: Tin; ComponentLink1Description: Website Link; ComponentLink1URL: https://www.we-online.com/redexpert/article/9774050982R?ad; ComponentLink2Description: Datasheet Link; ComponentLink2URL: https://www.we-online.com/redexpert/spec/9774050982R?ad; Category: SMT Spacers; Match Code: WA-SMST; Mount: Surface Mount; Operating Temperature Max: 150°C; Operating Temperature Min: -55°C; Packaging: Tape and Reel; Height: 5mm; Inside Diameter: 4.5mm; Material: Steel; Outside Diameter: 8.2mm
footprint 9774050982
pins: 1

## 9774055951
designator MP?, comment hole 2.7mm x 5.5mm  (value not drawn)
WA-SMST SMT Steel Spacer, OD 5.1mm, hole 2.7mm x 5.5mm; Manufacturer Part Number: 9774055951; Manufacturer: Wurth Elektronik; Surface: Tin; ComponentLink1Description: Website Link; ComponentLink1URL: https://www.we-online.com/redexpert/article/9774055951?ad; ComponentLink2Description: Datasheet Link; ComponentLink2URL: https://www.we-online.com/redexpert/spec/9774055951?ad; Category: SMT Spacers; Match Code: WA-SMST; Mount: Surface Mount; Operating Temperature Max: 150°C; Operating Temperature Min: -55°C; Packaging: Bulk; Height: 5.5mm; Inside Diameter: 2.7mm; Material: Steel; Outside Diameter: 5.1mm
footprint 9774055951
pins: 1

## 9774055951R
designator MP?, comment hole 2.7mm x 5.5mm  (value not drawn)
WA-SMST SMT Steel Spacer, OD 5.1mm, hole 2.7mm x 5.5mm; Manufacturer Part Number: 9774055951R; Manufacturer: Wurth Elektronik; Surface: Tin; ComponentLink1Description: Website Link; ComponentLink1URL: https://www.we-online.com/redexpert/article/9774055951R?ad; ComponentLink2Description: Datasheet Link; ComponentLink2URL: https://www.we-online.com/redexpert/spec/9774055951R?ad; Category: SMT Spacers; Match Code: WA-SMST; Mount: Surface Mount; Operating Temperature Max: 150°C; Operating Temperature Min: -55°C; Packaging: Tape and Reel; Height: 5.5mm; Inside Diameter: 2.7mm; Material: Steel; Outside Diameter: 5.1mm
footprint 9774055951
pins: 1

## 9774060943
designator MP?, comment hole 2.25mm x 6mm  (value not drawn)
WA-SMST SMT Steel Spacer, OD 4.35mm, hole 2.25mm x 6mm; Manufacturer Part Number: 9774060943; Manufacturer: Wurth Elektronik; Surface: Tin; ComponentLink1Description: Website Link; ComponentLink1URL: https://www.we-online.com/redexpert/article/9774060943?ad; ComponentLink2Description: Datasheet Link; ComponentLink2URL: https://www.we-online.com/redexpert/spec/9774060943?ad; Category: SMT Spacers; Match Code: WA-SMST; Mount: Surface Mount; Operating Temperature Max: 150°C; Operating Temperature Min: -55°C; Packaging: Bulk; Height: 6mm; Inside Diameter: 2.25mm; Material: Steel; Outside Diameter: 4.35mm
footprint 9774060943
pins: 1

## 9774060943R
designator MP?, comment hole 2.25mm x 6mm  (value not drawn)
WA-SMST SMT Steel Spacer, OD 4.35mm, hole 2.25mm x 6mm; Manufacturer Part Number: 9774060943R; Manufacturer: Wurth Elektronik; Surface: Tin; ComponentLink1Description: Website Link; ComponentLink1URL: https://www.we-online.com/redexpert/article/9774060943R?ad; ComponentLink2Description: Datasheet Link; ComponentLink2URL: https://www.we-online.com/redexpert/spec/9774060943R?ad; Category: SMT Spacers; Match Code: WA-SMST; Mount: Surface Mount; Operating Temperature Max: 150°C; Operating Temperature Min: -55°C; Packaging: Tape and Reel; Height: 6mm; Inside Diameter: 2.25mm; Material: Steel; Outside Diameter: 4.35mm
footprint 9774060943
pins: 1

## 9774060951
designator MP?, comment hole 2.7mm x 6mm  (value not drawn)
WA-SMST SMT Steel Spacer, OD 5.1mm, hole 2.7mm x 6mm; Manufacturer Part Number: 9774060951; Manufacturer: Wurth Elektronik; Surface: Tin; ComponentLink1Description: Website Link; ComponentLink1URL: https://www.we-online.com/redexpert/article/9774060951?ad; ComponentLink2Description: Datasheet Link; ComponentLink2URL: https://www.we-online.com/redexpert/spec/9774060951?ad; Category: SMT Spacers; Match Code: WA-SMST; Mount: Surface Mount; Operating Temperature Max: 150°C; Operating Temperature Min: -55°C; Packaging: Bulk; Height: 6mm; Inside Diameter: 2.7mm; Material: Steel; Outside Diameter: 5.1mm
footprint 9774060951
pins: 1

## 9774060951R
designator MP?, comment hole 2.7mm x 6mm  (value not drawn)
WA-SMST SMT Steel Spacer, OD 5.1mm, hole 2.7mm x 6mm; Manufacturer Part Number: 9774060951R; Manufacturer: Wurth Elektronik; Surface: Tin; ComponentLink1Description: Website Link; ComponentLink1URL: https://www.we-online.com/redexpert/article/9774060951R?ad; ComponentLink2Description: Datasheet Link; ComponentLink2URL: https://www.we-online.com/redexpert/spec/9774060951R?ad; Category: SMT Spacers; Match Code: WA-SMST; Mount: Surface Mount; Operating Temperature Max: 150°C; Operating Temperature Min: -55°C; Packaging: Tape and Reel; Height: 6mm; Inside Diameter: 2.7mm; Material: Steel; Outside Diameter: 5.1mm
footprint 9774060951
pins: 1

## 9774060960
designator MP?, comment hole 3.3mm x 6mm  (value not drawn)
WA-SMST SMT Steel Spacer, OD 6mm, hole 3.3mm x 6mm; Manufacturer Part Number: 9774060960; Manufacturer: Wurth Elektronik; Surface: Tin; ComponentLink1Description: Website Link; ComponentLink1URL: https://www.we-online.com/redexpert/article/9774060960?ad; ComponentLink2Description: Datasheet Link; ComponentLink2URL: https://www.we-online.com/redexpert/spec/9774060960?ad; Category: SMT Spacers; Match Code: WA-SMST; Mount: Surface Mount; Operating Temperature Max: 150°C; Operating Temperature Min: -55°C; Packaging: Bulk; Height: 6mm; Inside Diameter: 3.3mm; Material: Steel; Outside Diameter: 6mm
footprint 9774060960
pins: 1

## 9774060960R
designator MP?, comment hole 3.3mm x 6mm  (value not drawn)
WA-SMST SMT Steel Spacer, OD 6mm, hole 3.3mm x 6mm; Manufacturer Part Number: 9774060960R; Manufacturer: Wurth Elektronik; Surface: Tin; ComponentLink1Description: Website Link; ComponentLink1URL: https://www.we-online.com/redexpert/article/9774060960R?ad; ComponentLink2Description: Datasheet Link; ComponentLink2URL: https://www.we-online.com/redexpert/spec/9774060960R?ad; Category: SMT Spacers; Match Code: WA-SMST; Mount: Surface Mount; Operating Temperature Max: 150°C; Operating Temperature Min: -55°C; Packaging: Tape and Reel; Height: 6mm; Inside Diameter: 3.3mm; Material: Steel; Outside Diameter: 6mm
footprint 9774060960
pins: 1

## 9774060982
designator MP?, comment hole 4.5mm x 6mm  (value not drawn)
WA-SMST SMT Steel Spacer, OD 8.2mm, hole 4.5mm x 6mm; Manufacturer Part Number: 9774060982; Manufacturer: Wurth Elektronik; Surface: Tin; ComponentLink1Description: Website Link; ComponentLink1URL: https://www.we-online.com/redexpert/article/9774060982?ad; ComponentLink2Description: Datasheet Link; ComponentLink2URL: https://www.we-online.com/redexpert/spec/9774060982?ad; Category: SMT Spacers; Match Code: WA-SMST; Mount: Surface Mount; Operating Temperature Max: 150°C; Operating Temperature Min: -55°C; Packaging: Bulk; Height: 6mm; Inside Diameter: 4.5mm; Material: Steel; Outside Diameter: 8.2mm
footprint 9774060982
pins: 1

## 9774060982R
designator MP?, comment hole 4.5mm x 6mm  (value not drawn)
WA-SMST SMT Steel Spacer, OD 8.2mm, hole 4.5mm x 6mm; Manufacturer Part Number: 9774060982R; Manufacturer: Wurth Elektronik; Surface: Tin; ComponentLink1Description: Website Link; ComponentLink1URL: https://www.we-online.com/redexpert/article/9774060982R?ad; ComponentLink2Description: Datasheet Link; ComponentLink2URL: https://www.we-online.com/redexpert/spec/9774060982R?ad; Category: SMT Spacers; Match Code: WA-SMST; Mount: Surface Mount; Operating Temperature Max: 150°C; Operating Temperature Min: -55°C; Packaging: Tape and Reel; Height: 6mm; Inside Diameter: 4.5mm; Material: Steel; Outside Diameter: 8.2mm
footprint 9774060982
pins: 1

## 9774065951
designator MP?, comment hole 2.7mm x 6.5mm  (value not drawn)
WA-SMST SMT Steel Spacer, OD 5.1mm, hole 2.7mm x 6.5mm; Manufacturer Part Number: 9774065951; Manufacturer: Wurth Elektronik; Surface: Tin; ComponentLink1Description: Website Link; ComponentLink1URL: https://www.we-online.com/redexpert/article/9774065951?ad; ComponentLink2Description: Datasheet Link; ComponentLink2URL: https://www.we-online.com/redexpert/spec/9774065951?ad; Category: SMT Spacers; Match Code: WA-SMST; Mount: Surface Mount; Operating Temperature Max: 150°C; Operating Temperature Min: -55°C; Packaging: Bulk; Height: 6.5mm; Inside Diameter: 2.7mm; Material: Steel; Outside Diameter: 5.1mm
footprint 9774065951
pins: 1

## 9774065951R
designator MP?, comment hole 2.7mm x 6.5mm  (value not drawn)
WA-SMST SMT Steel Spacer, OD 5.1mm, hole 2.7mm x 6.5mm; Manufacturer Part Number: 9774065951R; Manufacturer: Wurth Elektronik; Surface: Tin; ComponentLink1Description: Website Link; ComponentLink1URL: https://www.we-online.com/redexpert/article/9774065951R?ad; ComponentLink2Description: Datasheet Link; ComponentLink2URL: https://www.we-online.com/redexpert/spec/9774065951R?ad; Category: SMT Spacers; Match Code: WA-SMST; Mount: Surface Mount; Operating Temperature Max: 150°C; Operating Temperature Min: -55°C; Packaging: Bulk; Height: 6.5mm; Inside Diameter: 2.7mm; Material: Steel; Outside Diameter: 5.1mm
footprint 9774065951
pins: 1

## 9774070943
designator MP?, comment hole 2.25mm x 7mm  (value not drawn)
WA-SMST SMT Steel Spacer, OD 4.35mm, hole 2.25mm x 7mm; Manufacturer Part Number: 9774070943; Manufacturer: Wurth Elektronik; Surface: Tin; ComponentLink1Description: Website Link; ComponentLink1URL: https://www.we-online.com/redexpert/article/9774070943?ad; ComponentLink2Description: Datasheet Link; ComponentLink2URL: https://www.we-online.com/redexpert/spec/9774070943?ad; Category: SMT Spacers; Match Code: WA-SMST; Mount: Surface Mount; Operating Temperature Max: 150°C; Operating Temperature Min: -55°C; Packaging: Bulk; Height: 7mm; Inside Diameter: 2.25mm; Material: Steel; Outside Diameter: 4.35mm
footprint 9774070943
pins: 1